# Altium schematic symbol library Diode.SchLib: 5 symbols
Pins are listed as number, name and electrical type; pins without a type are passive.

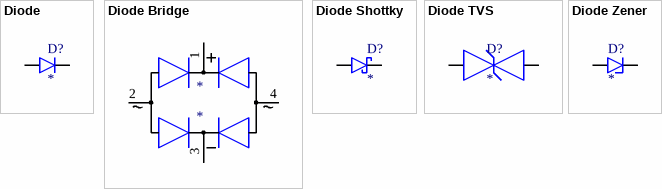
[diagram p0: symbols Diode to Diode Zener]

## Diode
designator D?
footprint SMA
footprint SMB
footprint SMC
footprint SOD80C
footprint SOD123
footprint SOD323
footprint DO35-10
footprint DO41-10
footprint D1206 (Chip Resistor, Body 3.2x1.6mm, IPC Low Density)
footprint D0805 (Chip Resistor, Body 2.0x1.3mm, IPC Low Density)
footprint DO-213A
footprint DO-213AB
footprint SOD523
pins: 1 (power), 2 (power)

## Diode Bridge
designator *
pins: 1, 2, 3, 4

## Diode Shottky
designator D?
footprint SMA
footprint SMB
footprint SMC
footprint SOD80C
footprint SOD123
footprint SOD323
footprint DO35-10
footprint DO41-10
footprint DO-213AB
footprint SOD523
pins: 1 (power), 2 (power)

## Diode TVS
designator D?
footprint SMA
footprint SMB
footprint SMC
footprint SOD80C
footprint SOD123
footprint SOD323
footprint DO35-10
footprint DO41-10
footprint SOD523
pins: 1 (power), 2 (power)

## Diode Zener
designator D?
footprint SMA
footprint SMB
footprint SMC
footprint SOD80C
footprint SOD123
footprint SOD323
footprint DO35-10
footprint DO41-10
footprint SOD523
pins: 1 (power), 2 (power)